# Altium footprint library 5142.48-А.PcbLib: 2 footprints
Each footprint in its own frame and in the unit in brackets; x right, y up, seen from the top. Pads: shape width x height; smd on the part's side, far side on the other; paste and mask are expansions set on the pad; w line width, h text height; cw(c..) or ccw(c..) is an arc to the next point about the centre after c.
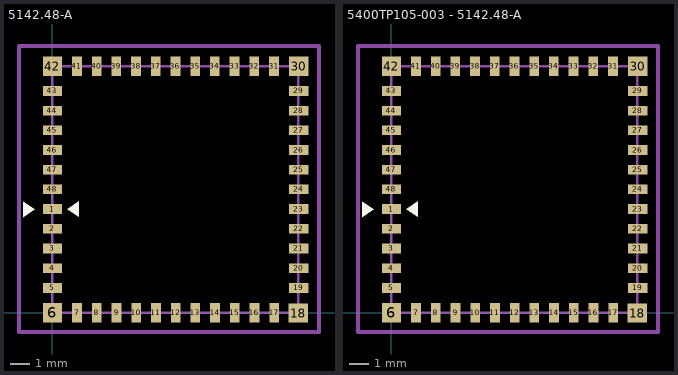
[diagram p0: the footprints below, top view; thin cyan lines are the x and y axes]

## 5142.48-А [mm]
pads (48):
  rect 1x0.5 smd: 1(0,5.339) 2(0,4.323) 3(0,3.307) 4(0,2.286) 5(0,1.27) 19(12.7,1.27) 20(12.7,2.286) 21(12.7,3.307) 22(12.7,4.323) 23(12.7,5.339) 24(12.7,6.355) 25(12.7,7.371) 26(12.7,8.387) 27(12.7,9.403) 28(12.7,10.419) 29(12.7,11.435) 43(0,11.435) 44(0,10.419) 45(0,9.403) 46(0,8.387) 47(0,7.371) 48(0,6.355)
  rect 1x1 smd: 6(0,0) 18(12.675,-0.025) 30(12.7,12.7) 42(0,12.7)
  rect 0.5x1 smd: 7(1.27,0) 8(2.286,0) 9(3.307,0) 10(4.323,0) 11(5.339,0) 12(6.355,0) 13(7.371,0) 14(8.387,0) 15(9.403,0) 16(10.419,0) 17(11.435,0) 31(11.43,12.7) 32(10.414,12.7) 33(9.393,12.7) 34(8.377,12.7) 35(7.361,12.7) 36(6.345,12.7) 37(5.329,12.7) 38(4.313,12.7) 39(3.297,12.7) 40(2.281,12.7) 41(1.265,12.7)
Top Overlay:
  region: 1.368,4.939 1.368,5.739 0.768,5.339
  region: -1.52,5.729 -1.52,4.929 -0.92,5.329
Top Assembly:
  lines w0.127: -0.007,0 -0.007,12.686 ; 0,12.7 12.7,12.7 ; 0.014,-0.007 12.675,-0.007 ; 12.682,-0.011 12.682,12.7
  text "'.Designator'" at 2,5.75 h0.7
Top Component Outline:
  lines w0.2: -1.727,-1 13.75,-1 13.75,13.75 -1.727,13.75 -1.727,-1
3D body "5142.48-А.stp": height 2.12, standoff 0, extent 0,0 12.7,12.7

## 5400ТР105-003 - 5142.48-А [mm]
pads (48):
  rect 1x0.5 smd: 1(0,5.339) 2(0,4.323) 3(0,3.307) 4(0,2.286) 5(0,1.27) 19(12.7,1.27) 20(12.7,2.286) 21(12.7,3.307) 22(12.7,4.323) 23(12.7,5.339) 24(12.7,6.355) 25(12.7,7.371) 26(12.7,8.387) 27(12.7,9.403) 28(12.7,10.419) 29(12.7,11.435) 43(0,11.435) 44(0,10.419) 45(0,9.403) 46(0,8.387) 47(0,7.371) 48(0,6.355)
  rect 1x1 smd: 6(0,0) 18(12.675,-0.025) 30(12.7,12.7) 42(0,12.7)
  rect 0.5x1 smd: 7(1.27,0) 8(2.286,0) 9(3.307,0) 10(4.323,0) 11(5.339,0) 12(6.355,0) 13(7.371,0) 14(8.387,0) 15(9.403,0) 16(10.419,0) 17(11.435,0) 31(11.43,12.7) 32(10.414,12.7) 33(9.393,12.7) 34(8.377,12.7) 35(7.361,12.7) 36(6.345,12.7) 37(5.329,12.7) 38(4.313,12.7) 39(3.297,12.7) 40(2.281,12.7) 41(1.265,12.7)
Top Overlay:
  region: 1.368,4.939 1.368,5.739 0.768,5.339
  region: -1.52,5.729 -1.52,4.929 -0.92,5.329
Top Assembly:
  lines w0.127: -0.007,0 -0.007,12.686 ; 0,12.7 12.7,12.7 ; 0.014,-0.007 12.675,-0.007 ; 12.682,-0.011 12.682,12.7
  text "'.Designator'" at 2,5.75 h0.7
Top Component Outline:
  lines w0.2: -1.727,-1 13.75,-1 13.75,13.75 -1.727,13.75 -1.727,-1
3D body: height 2.13, standoff 2, extent 0.61,0.61 12.141,12.116
3D body "5142.48-А.stp": height 2.12, standoff 0, extent 0,0 12.7,12.7